# Altium integrated library TEA5767(RRD-102bc).IntLib: 1 symbol
Pins are listed as number, name and electrical type; pins without a type are passive.

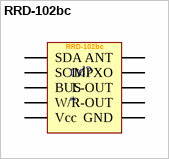
[diagram p0: symbol RRD-102bc]

## RRD-102bc
designator rrd?  (no BOM)
TEA5767; FrqLo: 80Mhz; Item: Rtt
footprint RRD-102BC
pins: 1 SDA, 2 SCL, 3 BUS, 4 W/R, 5 Vcc (power) "+3.3 V", 6 GND (power), 7 R-OUT, 8 L-OUT, 9 MPXO, 10 ANT